# Altium footprint library Footprint-Lib-ABahlmann-MISC.PcbLib: 69 footprints (part 5 of 5)
Each footprint in its own frame and in the unit in brackets; x right, y up, seen from the top. Pads: shape width x height; smd on the part's side, far side on the other; paste and mask are expansions set on the pad; w line width, h text height; cw(c..) or ccw(c..) is an arc to the next point about the centre after c.
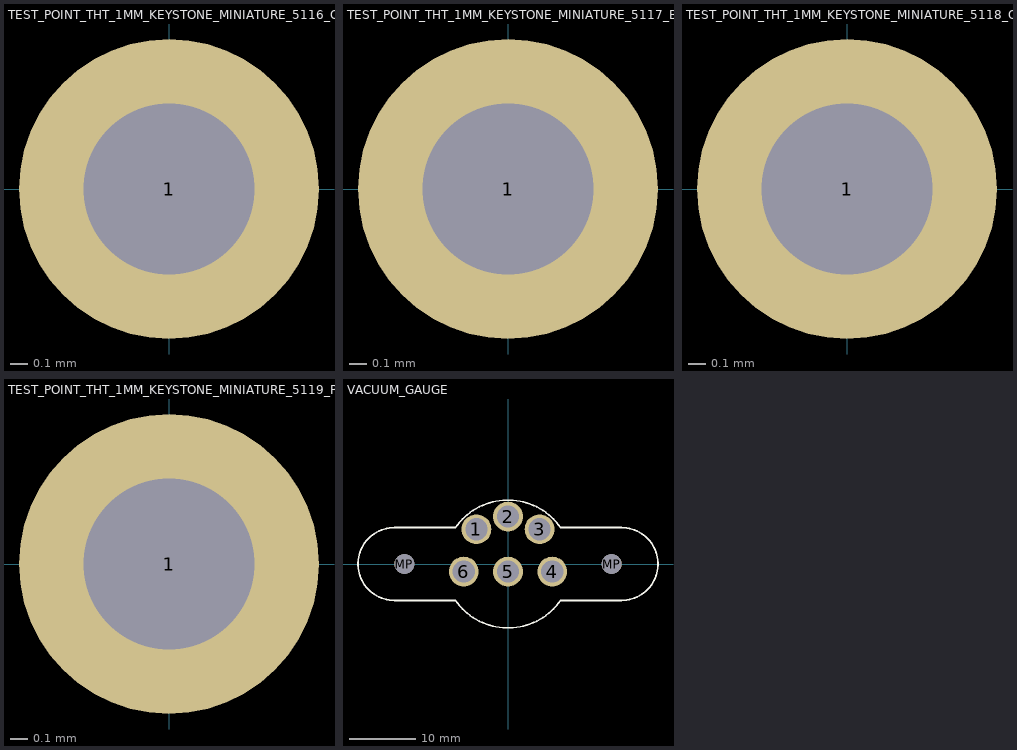
[diagram p4: the footprints below, top view; thin cyan lines are the x and y axes]

## TEST_POINT_THT_1MM_KEYSTONE_MINIATURE_5116_GREEN [mm] "PC Test Point, Miniature Phosphor Bronze Silver Plating Through Hole Mounting Type"
pads (1):
  round 1.75 hole 1: 1(0,0)
3D body "Keystone 5116.step": height 4.58, standoff -3.04, extent -1.07,-1.062 1.07,1.062

## TEST_POINT_THT_1MM_KEYSTONE_MINIATURE_5117_BLUE [mm] "PC Test Point, Miniature Phosphor Bronze Silver Plating Through Hole Mounting Type"
pads (1):
  round 1.75 hole 1: 1(0,0)
3D body "Keystone 5117.step": height 4.58, standoff -3.04, extent -1.07,-1.062 1.07,1.062

## TEST_POINT_THT_1MM_KEYSTONE_MINIATURE_5118_GREY [mm] "PC Test Point, Miniature Phosphor Bronze Silver Plating Through Hole Mounting Type"
pads (1):
  round 1.75 hole 1: 1(0,0)
3D body "Keystone 5118.step": height 4.58, standoff -3.04, extent -1.07,-1.062 1.07,1.062

## TEST_POINT_THT_1MM_KEYSTONE_MINIATURE_5119_PURPLE [mm] "PC Test Point, Miniature Phosphor Bronze Silver Plating Through Hole Mounting Type"
pads (1):
  round 1.75 hole 1: 1(0,0)
3D body "Keystone 5119.step": height 4.58, standoff -3.04, extent -1.07,-1.062 1.07,1.062

## VACUUM_GAUGE [mm]
pads (8):
  round 4.5 hole 3.35: 1(-4.775,5.252) 2(0,7.163) 3(4.775,5.252) 4(6.685,-1.15) 5(0,-1.15) 6(-6.685,-1.15)
  round 3 hole 3 unplated: MP(-15.655,0) MP(15.655,0)
Top Overlay:
  lines w0.254: -7.95,-5.5 -17.155,-5.5 cw(c-17.155,0) -17.155,5.5 -7.95,5.5 ; -7.933,-5.503 ccw(c0,0) 7.933,-5.503 ; -7.933,5.503 cw(c0,0) 7.933,5.503 ; 7.95,-5.5 17.155,-5.5 ccw(c17.155,0) 17.155,5.5 7.95,5.5
3D body "MKS-Sleeve.STEP": height 15.01, standoff 0.01, extent -22.655,-9.655 22.655,9.655
3D body "MISUMI_M3x6mm_Hex-Socket-Drive-Screw-SEMS.stp": height 9.5, standoff -1.5, extent 12.155,-3.488 19.155,3.488
3D body "MISUMI_M3x6mm_Hex-Socket-Drive-Screw-SEMS.stp": height 9.5, standoff -1.5, extent -19.155,-3.488 -12.155,3.488